# Altium footprint library RM_addition.PcbLib: 124 footprints (part 1 of 8)
Each footprint in its own frame and in the unit in brackets; x right, y up, seen from the top. Pads: shape width x height; smd on the part's side, far side on the other; paste and mask are expansions set on the pad; w line width, h text height; cw(c..) or ccw(c..) is an arc to the next point about the centre after c.
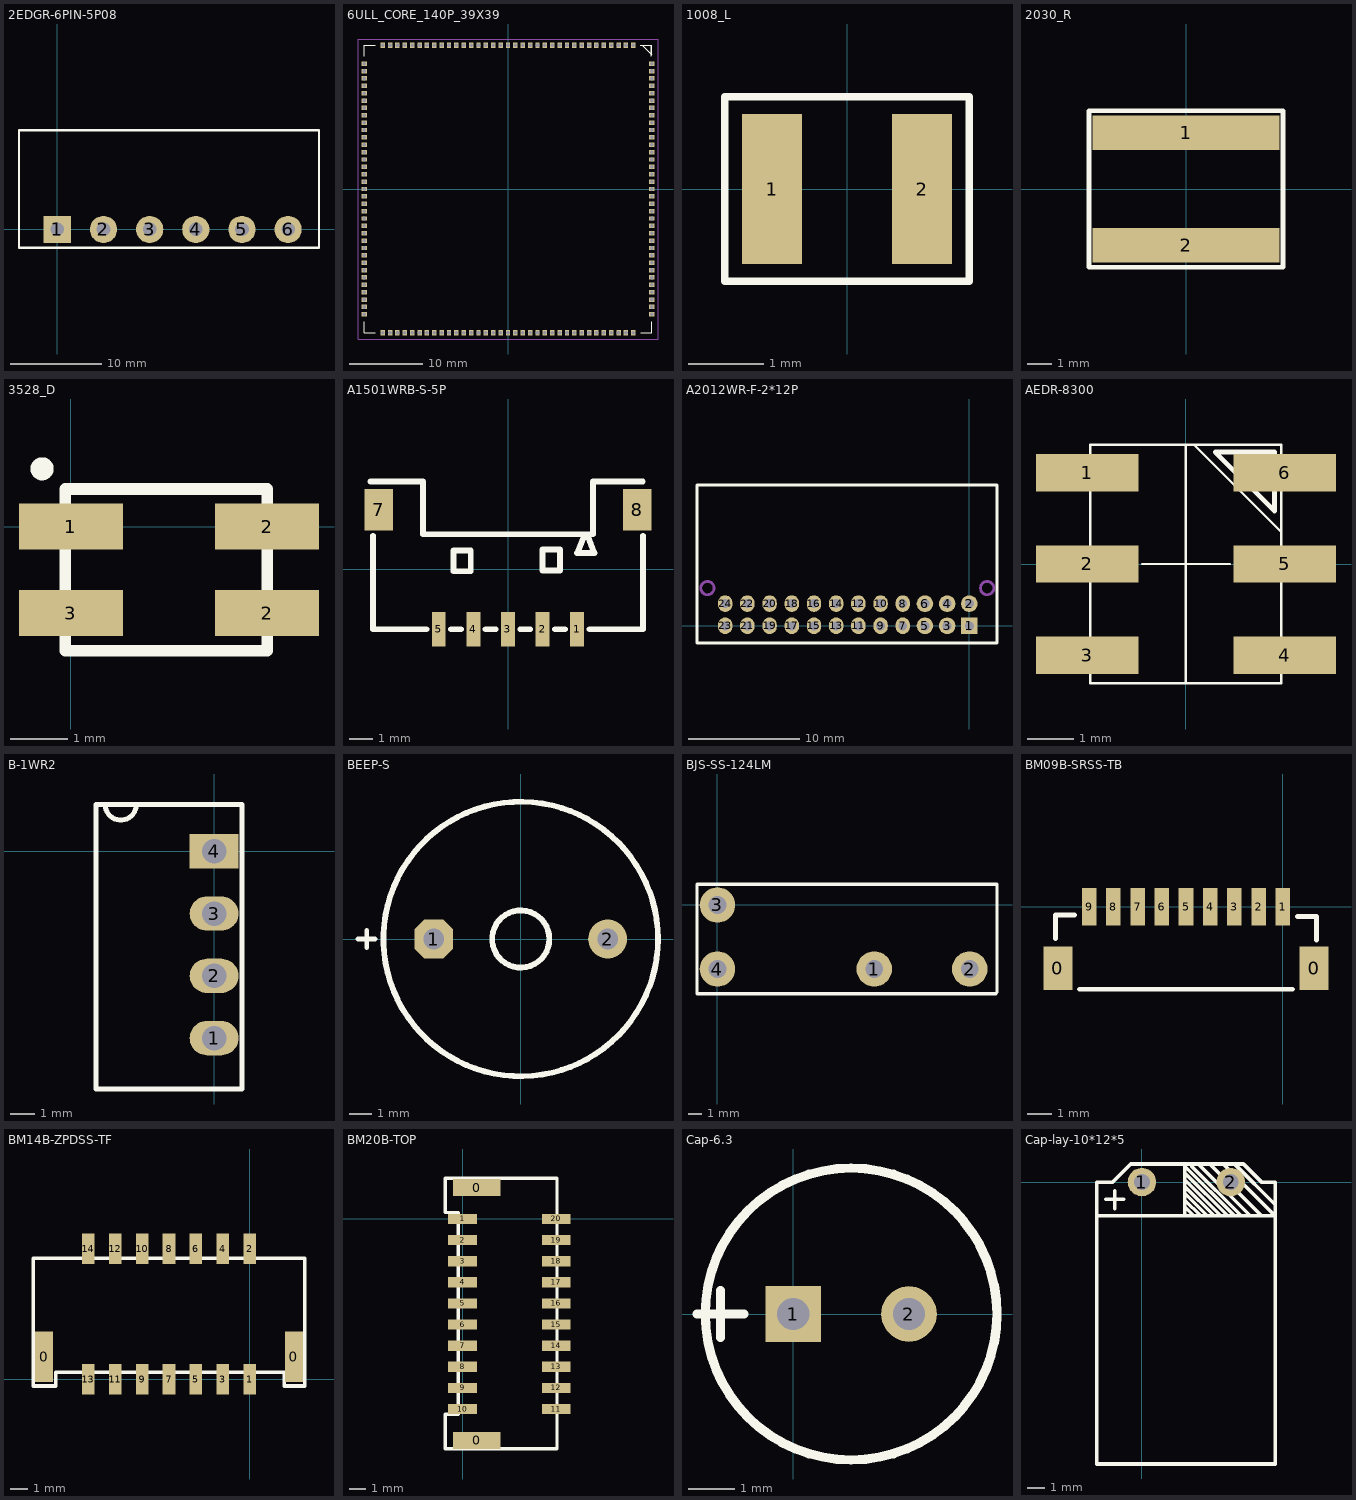
[diagram p0: the footprints below, top view; thin cyan lines are the x and y axes]

## 2EDGR-6PIN-5P08 [mm]
pads (6):
  rect 3x3 hole 1.5: 1(0,0)
  round 3 hole 1.5: 2(5.08,0) 3(10.16,0) 4(15.24,0) 5(20.32,0) 6(25.4,0)
Top Overlay:
  lines w0.254: -4.22,-2 28.8,-2 28.8,10.9 -4.22,10.9 -4.22,-2

## 6ULL_CORE_140P_39X39 [mil]
pads (140):
  rect 23.62x31.5 / inner rect 23.62x31.5 / far side rect 23.62x78.74 hole 19.69 mask+1.97: 1(669.29,767.72) 2(629.92,767.72) 3(590.55,767.72) 4(551.18,767.72) 5(511.81,767.72) 6(472.44,767.72) 7(433.07,767.72) 8(393.7,767.72) 9(354.33,767.72) 10(314.96,767.72) 11(275.59,767.72) 12(236.22,767.72) 13(196.85,767.72) 14(157.48,767.72) 15(118.11,767.72) 16(78.74,767.72) 17(39.37,767.72) 18(0,767.72) 19(-39.37,767.72) 20(-78.74,767.72) 21(-118.11,767.72) 22(-157.48,767.72) 23(-196.85,767.72) 24(-236.22,767.72) 25(-275.59,767.72) 26(-314.96,767.72) 27(-354.33,767.72) 28(-393.7,767.72) 29(-433.07,767.72) 30(-472.44,767.72) 31(-511.81,767.72) 32(-551.18,767.72) 33(-590.55,767.72) 34(-629.92,767.72) 35(-669.29,767.72) 71(-669.29,-767.72) 72(-629.92,-767.72) 73(-590.55,-767.72) 74(-551.18,-767.72) 75(-511.81,-767.72) 76(-472.44,-767.72) 77(-433.07,-767.72) 78(-393.7,-767.72) 79(-354.33,-767.72) 80(-314.96,-767.72) 81(-275.59,-767.72) 82(-236.22,-767.72) 83(-196.85,-767.72) 84(-157.48,-767.72) 85(-118.11,-767.72) 86(-78.74,-767.72) 87(-39.37,-767.72) 88(0,-767.72) 89(39.37,-767.72) 90(78.74,-767.72) 91(118.11,-767.72) 92(157.48,-767.72) 93(196.85,-767.72) 94(236.22,-767.72) 95(275.59,-767.72) 96(314.96,-767.72) 97(354.33,-767.72) 98(393.7,-767.72) 99(433.07,-767.72) 100(472.44,-767.72) 101(511.81,-767.72) 102(551.18,-767.72) 103(590.55,-767.72) 104(629.92,-767.72) 105(669.29,-767.72)
  rect 31.5x23.62 / inner rect 31.5x23.62 / far side rect 78.74x23.62 hole 19.69 mask+1.97: 36(-767.72,669.29) 37(-767.72,629.92) 38(-767.72,590.55) 39(-767.72,551.18) 40(-767.72,511.81) 41(-767.72,472.44) 42(-767.72,433.07) 43(-767.72,393.7) 44(-767.72,354.33) 45(-767.72,314.96) 46(-767.72,275.59) 47(-767.72,236.22) 48(-767.72,196.85) 49(-767.72,157.48) 50(-767.72,118.11) 51(-767.72,78.74) 52(-767.72,39.37) 53(-767.72,0) 54(-767.72,-39.37) 55(-767.72,-78.74) 56(-767.72,-118.11) 57(-767.72,-157.48) 58(-767.72,-196.85) 59(-767.72,-236.22) 60(-767.72,-275.59) 61(-767.72,-314.96) 62(-767.72,-354.33) 63(-767.72,-393.7) 64(-767.72,-433.07) 65(-767.72,-472.44) 66(-767.72,-511.81) 67(-767.72,-551.18) 68(-767.72,-590.55) 69(-767.72,-629.92) 70(-767.72,-669.29) 106(767.72,-669.29) 107(767.72,-629.92) 108(767.72,-590.55) 109(767.72,-551.18) 110(767.72,-511.81) 111(767.72,-472.44) 112(767.72,-433.07) 113(767.72,-393.7) 114(767.72,-354.33) 115(767.72,-314.96) 116(767.72,-275.59) 117(767.72,-236.22) 118(767.72,-196.85) 119(767.72,-157.48) 120(767.72,-118.11) 121(767.72,-78.74) 122(767.72,-39.37) 123(767.72,0) 124(767.72,39.37) 125(767.72,78.74) 126(767.72,118.11) 127(767.72,157.48) 128(767.72,196.85) 129(767.72,236.22) 130(767.72,275.59) 131(767.72,314.96) 132(767.72,354.33) 133(767.72,393.7) 134(767.72,433.07) 135(767.72,472.44) 136(767.72,511.81) 137(767.72,551.18) 138(767.72,590.55) 139(767.72,629.92) 140(767.72,669.29)
Top Overlay:
  lines w1: 717.72,767.72 767.72,767.72 767.72,717.72 717.72,767.72
  lines w6: -767.72,-767.72 -767.72,-708.46 -767.72,-767.72 ; -767.72,-767.72 -708.66,-767.52 -767.72,-767.72 ; -767.72,767.72 -767.72,708.46 -767.72,767.72 ; -767.72,767.72 -708.66,767.52 -767.72,767.72 ; 765.43,767.17 706.38,766.97 765.43,767.17 ; 765.43,767.17 765.43,707.91 765.43,767.17 ; 767.72,-767.72 767.72,-708.46 767.72,-767.72 ; 767.72,-767.72 708.66,-767.52 767.72,-767.72
Assembly Top:
  text "J1" at -24.29,-25 h50
Mechanical 14:
  lines w1: -801.19,-801.19 -801.19,801.19 801.19,801.19 801.19,-801.19 -801.19,-801.19

## 1008_L [mm]
pads (2):
  rect 0.8x2 smd: 1(-1,0) 2(1,0)
Top Overlay:
  lines w0.1: -1.63,0 -1.63,1.23 -0.18,1.23 ; -1.63,0.254 -1.63,-1.23 -0.18,-1.23 ; -0.307,-1.23 0.307,-1.23 ; -0.307,1.23 0.307,1.23 ; 0.18,-1.23 1.63,-1.23 1.63,0.02 ; 0.18,1.23 1.63,1.23 1.63,-0.234

## 2030_R [mm]
pads (2):
  rect 7.6x1.4 smd: 1(0,2.286) 2(0,-2.286)
Top Overlay:
  lines w0.2: -3.94,-3.175 3.937,-3.175 3.937,3.175 -3.94,3.175 -3.94,0 -3.94,-3.175

## 3528_D [mm]
pads (4):
  rect 1.8x0.8 smd: 1(0,0) 2(3.4,-1.5) 2(3.4,0) 3(0,-1.5)
Top Overlay:
  circle w0.2: c-0.5,1 r0.1
  lines w0.2: -0.1,-2.15 -0.1,0.65 3.4,0.65 3.4,-2.15 -0.1,-2.15

## A1501WRB-S-5P [mm] "线对线/线对板连接器"
pads (7):
  rect 0.6x1.5 smd: 1(2.999,-2.595) 2(1.499,-2.595) 3(-0.001,-2.595) 4(-1.502,-2.595) 5(-3,-2.595)
  rect 1.25x1.8 smd: 7(-5.605,2.595) 8(5.605,2.595)
Top Overlay:
  lines w0.254: -5.97,3.81 -3.684,3.81 -3.684,1.524 ; -5.851,1.455 -5.851,-2.595 -3.531,-2.595 ; -3.684,1.525 3.682,1.525 3.682,3.81 5.841,3.81 ; -2.47,-2.595 -2.033,-2.595 ; -0.971,-2.595 -0.531,-2.595 ; 0.53,-2.595 0.967,-2.595 ; 2.031,-2.595 2.468,-2.595 ; 3.299,1.455 2.999,0.705 3.749,0.705 3.449,1.455 ; 3.53,-2.595 5.849,-2.595 5.849,1.455 ; -2.366,-0.083 -2.366,0.817 -1.616,0.817 -1.616,-0.083 -2.366,-0.083 ; 1.499,-0.045 1.499,0.855 2.249,0.855 2.249,-0.045 1.499,-0.045

## A2012WR-F-2*12P [mm]
pads (24):
  rect 1.5x1.5 hole 0.8: 1(0,0)
  round 1.5 hole 0.8: 2(0,2) 3(-2,0) 4(-2,2) 5(-4,0) 6(-4,2)
  oval 1.3x1.5 hole 0.8: 7(-6,0) 8(-6,2) 9(-8,0) 10(-8,2) 11(-10,0) 12(-10,2) 13(-12,0) 14(-12,2) 15(-14,0) 16(-14,2) 17(-16,0) 18(-16,2) 19(-18,0) 20(-18,2) 21(-20,0) 22(-20,2) 23(-22,0) 24(-22,2)
Top Overlay:
  lines w0.254: -24.54,-1.56 2.49,-1.56 2.49,12.7 -24.54,12.7 -24.54,-1.56
Mechanical 1:
  circle w0.254: c-23.6,3.4 r0.6
  circle w0.254: c1.6,3.4 r0.6

## AEDR-8300 [mm]
pads (6):
  rect 2.2x0.8 smd: 1(-2.116,1.97) 2(-2.116,0.01) 3(-2.116,-1.95) 4(2.124,-1.95) 5(2.124,0.01) 6(2.124,1.97)
Top Overlay:
  lines w0.05: -0.94,0.01 0.94,0.01 ; 0,-2.55 0,2.57 ; 0.174,2.57 2.05,0.694 2.05,0.69 ; -2.05,-2.55 -2.05,2.57 2.05,2.57 2.05,-2.55 -2.05,-2.55
  lines w0.1: 0.762,2.413 1.905,2.413 1.905,1.143 0.635,2.413 1.016,2.413

## B-1WR2 [mm]
pads (4):
  oval 2x1.4 hole 1: 1(0,-7.62) 2(0,-5.08) 3(0,-2.54)
  rect 2x1.4 hole 1: 4(0,0)
Top Overlay:
  lines w0.2: -4.445,1.905 ccw(c-3.81,1.905) -3.175,1.905 ; -4.826,-9.695 -4.826,1.905 1.143,1.905 1.143,-9.695 -4.826,-9.695

## BEEP-S [mm] "有源蜂鸣器"
height 9.6
pads (2):
  oct 1.7x1.7 hole 0.9: 1(-3.8,0)
  round 1.7 hole 0.9: 2(3.8,0)
Top Overlay:
  circle w0.254: c0,0 r1.25
  circle w0.254: c0,0 r6
  lines w0.2: -7.112,0 -6.35,0 ; -6.731,-0.381 -6.731,0.381

## BJS-SS-124LM [mm]
pads (4):
  round 2.6 hole 1.3: 1(11.5,-4.7) 2(18.5,-4.7) 3(0,0) 4(0,-4.7)
Top Overlay:
  lines w0.254: 20.4,-6.5 -1.5,-6.5 -1.5,1.5 20.5,1.5 20.5,-6.4
Bottom Overlay:
  lines w0.254: 13,-4.6 13.9,-4.6 15.75,-2.75 ; 15.9,-4.6 17.1,-4.6 ; 20.4,-6.5 20.5,-6.4 ; 20.4,-6.5 -1.5,-6.5 -1.5,1.5 20.5,1.5 20.5,-6.4 ; 20.4,-6.5 20.5,-6.4

## BM09B-SRSS-TB [mm]
pads (11):
  rect 1.2x1.8 smd: 0(-9.3,-2.525) 0(1.3,-2.525)
  rect 0.6x1.55 smd: 1(0,0) 2(-1,0) 3(-2,0) 4(-3,0) 5(-4,0) 6(-5,0) 7(-6,0) 8(-7,0) 9(-8,0)
Top Overlay:
  lines w0.2: -9.4,-1.3 -9.4,-0.338 -8.6,-0.338 ; -8.4,-3.4 0.4,-3.4 ; 0.6,-0.4 1.4,-0.4 1.4,-1.362

## BM14B-ZPDSS-TF [mm]
pads (16):
  rect 1x2.8 smd: 0(-11.45,1.25) 0(2.45,1.25)
  rect 0.7x1.7 smd: 1(0,0) 2(0,7.25) 3(-1.5,0) 4(-1.5,7.25) 5(-3,0) 6(-3,7.25) 7(-4.5,0) 8(-4.5,7.25) 9(-6,0) 10(-6,7.25) 11(-7.5,0) 12(-7.5,7.25) 13(-9,0) 14(-9,7.25)
Top Overlay:
  lines w0.2: -12.065,-0.381 -10.795,-0.381 -10.795,0.381 1.905,0.381 1.905,-0.381 3.048,-0.381 3.048,6.731 -12.065,6.731 -12.065,-0.381

## BM20B-TOP [mm]
pads (22):
  rect 2.8x1 smd: 0(0.85,-13.1) 0(0.85,1.85)
  rect 1.7x0.6 smd: 1(0,0) 2(0,-1.25) 3(0,-2.5) 4(0,-3.75) 5(0,-5) 6(0,-6.25) 7(0,-7.5) 8(0,-8.75) 9(0,-10) 10(0,-11.25) 11(5.55,-11.25) 12(5.55,-10) 13(5.55,-8.75) 14(5.55,-7.5) 15(5.55,-6.25) 16(5.55,-5) 17(5.55,-3.75) 18(5.55,-2.5) 19(5.55,-1.25) 20(5.55,0)
Top Overlay:
  lines w0.2: -0.254,-10.795 -0.254,0.381 ; 5.588,-6.223 5.588,-11.875 ; -0.254,0.381 -0.254,-11.557 -1.016,-11.557 -1.016,-13.589 5.588,-13.589 5.588,-11.875 ; -0.254,0.381 -1.016,0.381 -1.016,2.413 4.875,2.413 5.588,2.413 5.588,-11.875

## Cap-6.3 [mm]
pads (2):
  rect 1.2x1.2 hole 0.7: 1(0,0)
  round 1.2 hole 0.7: 2(2.5,0)
Top Overlay:
  circle w0.2: c1.25,0 r3.15
  lines w0.2: -2.077,0 -1.061,0 ; -1.569,-0.508 -1.569,0.508

## Cap-lay-10*12*5 [mm]
pads (2):
  round 1.6 hole 0.9: 1(0,0) 2(5,0)
Top Overlay:
  lines w0.2: -2.54,-1.905 7.5,-1.905 7.493,-1.905 4.572,1.016 ; -2.04,-0.981 -1.024,-0.981 ; -1.524,-1.497 -1.524,-0.481 ; 2.413,-1.905 2.413,1.016 ; 2.413,-1.27 2.413,-1.397 2.921,-1.905 ; 2.413,-0.889 2.413,-1.016 3.302,-1.905 ; 2.413,-0.508 2.413,-0.635 3.683,-1.905 ; 2.413,-0.254 4.064,-1.905 ; 2.413,0.127 4.445,-1.905 ; 2.413,0.508 4.826,-1.905 ; 2.413,0.889 5.207,-1.905 ; 2.794,1.016 2.794,0.889 5.588,-1.905 ; 3.175,1.016 6.096,-1.905 ; 3.81,1.016 6.731,-1.905 ; 5.207,1.016 5.214,1.016 7.5,-1.27 ; -2.54,-15.875 7.5,-15.875 7.5,0 6.731,0 5.715,1.016 -0.635,1.016 -1.651,0 -2.54,0 -2.54,-15.875